# Altium schematic symbol library Jarrett.SchLib: 7 symbols
Pins are listed as number, name and electrical type; pins without a type are passive.

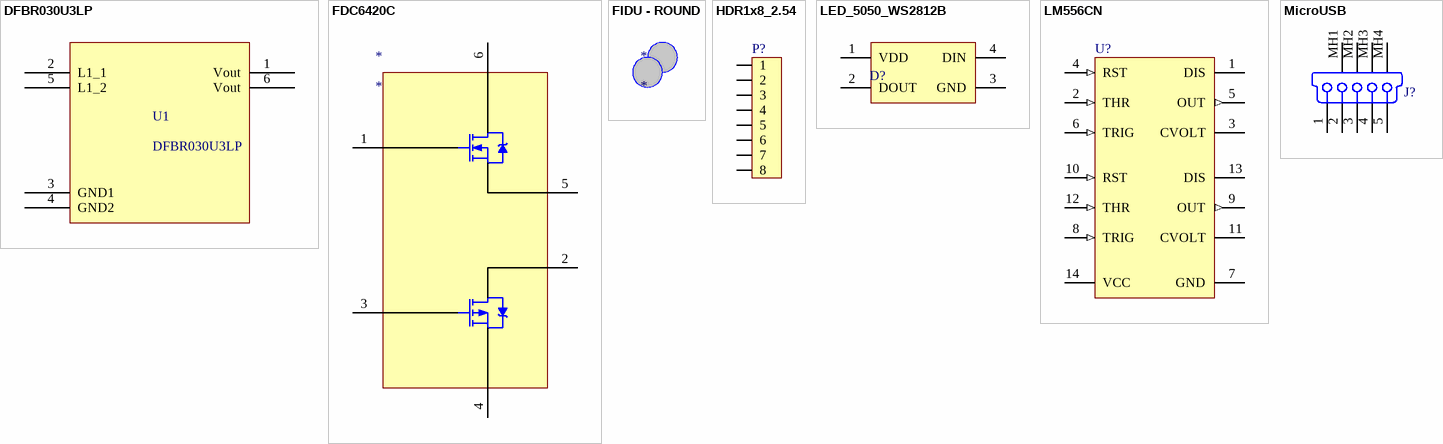
[diagram p0: symbols DFBR030U3LP to MicroUSB]

## DFBR030U3LP
designator U1
3A Full Bridge Rectifier
footprint U-DFN4040-8
pins: 1 Vout, 2 L1_1, 3 GND1, 4 GND2, 5 L1_2, 6 Vout

## FDC6420C
designator *
footprint SSOT23 (Super SOT-3)
pins: 1 NG, 2 PD, 3 PG, 4 PS, 5 NS, 6 ND

## FIDU - ROUND
designator *
footprint FIDU-ROUND

## HDR1x8_2.54
designator P?  (value not drawn)
Header
footprint HDR1X8_2.54_180H
pins: 1, 2, 3, 4, 5, 6, 7, 8

## LED_5050_WS2812B
designator D?  (value not drawn)
LED
footprint LED_5050_WS2812B
pins: 1 VDD, 2 DOUT, 3 GND, 4 DIN

## LM556CN
designator U?
Dual Timer, 14-pin MDIP; PartNumber: LM556CN; Manufacturer: National Semiconductor; PackageTopMarking: NSUZXYYTTE#*LM556CN; PowerWise: N; CompType: Analog IC; Published: 4-Dec-2008; DatasheetVersion: Mar-2000; PackageVersion: revG, May-2006; PackageReference: N14A; Publisher: Altium Limited; PackageDescription: MDIP, .750 x .250 x.130in, 14 Lead, .100in Pitch; Supplier 1: Farnell; Supplier Part Number 1: 9488260; RoHS: N; PinCount: 14; Code_JEDEC: MS-001-AA; ComponentLink1Description: LM556 Datasheet; ComponentLink1URL: http://www.national.com/ds/LM/LM556.pdf; ComponentLink2Description: LM556 Web Page; ComponentLink2URL: http://www.national.com/pf/LM/LM556.html; ComponentLink3Description: N14A Package Page; ComponentLink3URL: http://www.national.com/packaging/folders/n14a.html
footprint N14A (DIP, 14-Leads, Row Spacing 7.62mm, Pitch 2.54mm, Body 19.56x6.35mm)
pins: 1 DIS (oc), 2 THR (in), 3 CVOLT, 4 RST (in), 5 OUT (out), 6 TRIG (in), 7 GND (power), 8 TRIG (in), 9 OUT (out), 10 RST (in), 11 CVOLT, 12 THR (in), 13 DIS (oc), 14 VCC (power)

## MicroUSB
designator J?
USB On-The-Go (OTG) Mini-B Receptacle, Right Angle, SMT, 0.80mm (.031") Pitch, Solder Tabs with Back Cover, Recessed Type; PCB_Layout: Complies with Manufacturer's Recommendation.; Published: 21-Sep-2007; DatasheetVersion: revA, May-2004; PackageVersion: May-2004; PackageReference: 481900001; Publisher: Altium Limited; PackageDescription: USB Mini-B, Sinking Type, SM; 5 Position; Right Angle, Body 11.45 x 11.8 x 3.9 mm (LxWxH); ComponentLink1Description: Manufacturer Link; ComponentLink1URL: http://www.molex.com/; ComponentLink2Description: Datasheet; ComponentLink2URL: http://www.molex.com/cmc_upload/0/000/895/958/SD-48190-001RevA.pdf
signal-integrity model USB Mini-B
footprint microusb (Connector; USB Mini-B, Sinking Type, SM; 5 Position; Right Angle)
pins: 1 V BUS (5V) "USB Vcc [Red]", 2 D- "USB Data - [White]", 3 D+ "USB Data + [Green]", 4 NC "Not Connected (or joined to pin 5 via resistor)", 5 GND "Ground [Black]", MH1 Tab "Shell", MH2 Tab "Shell", MH3 Tab "Shell", MH4 Tab "Shell"